# Altium footprint library XDCR_AI-1027-TWT-3V-R.PcbLib: 1 footprints
Each footprint in its own frame and in the unit in brackets; x right, y up, seen from the top. Pads: shape width x height; smd on the part's side, far side on the other; paste and mask are expansions set on the pad; w line width, h text height; cw(c..) or ccw(c..) is an arc to the next point about the centre after c.
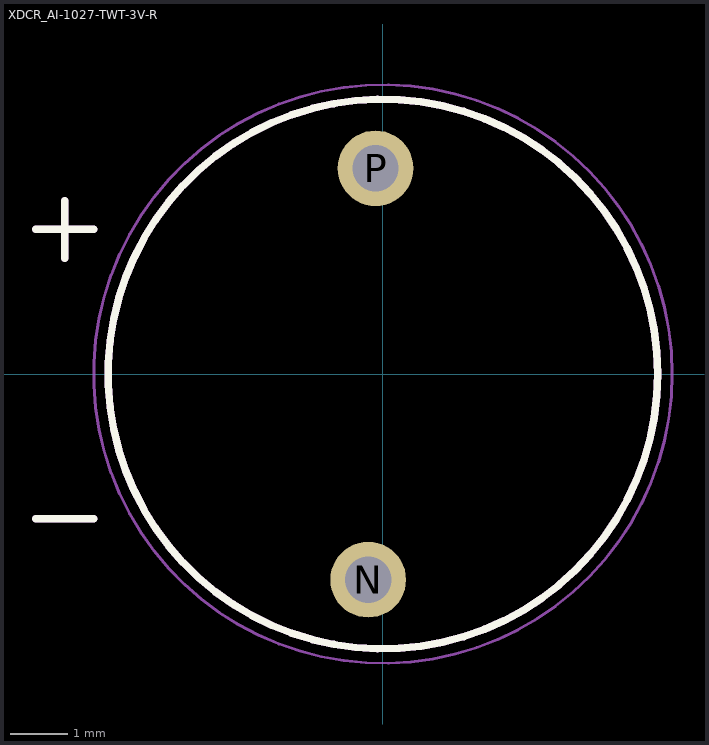
[diagram p0: the footprint, top view; thin cyan lines are the x and y axes]

## XDCR_AI-1027-TWT-3V-R [mil]
pads (2):
  round 51.5 hole 31.5: N(-10,-140) P(-5,140)
Top Overlay:
  circle w5: c0,0 r187.01
  lines w5: -236.22,-98.43 -196.85,-98.43 ; -236.22,98.43 -196.85,98.43 ; -216.54,78.74 -216.54,118.11
Mechanical 13:
  circle w5: c0,0 r187.01
  lines w5: -236.22,-98.43 -196.85,-98.43 ; -236.22,98.43 -196.85,98.43 ; -216.54,78.74 -216.54,118.11
Mechanical 15:
  circle w1.97: c0,0 r196.85